# Altium footprint library DM3CS-SF.PcbLib: 1 footprints
Each footprint in its own frame and in the unit in brackets; x right, y up, seen from the top. Pads: shape width x height; smd on the part's side, far side on the other; paste and mask are expansions set on the pad; w line width, h text height; cw(c..) or ccw(c..) is an arc to the next point about the centre after c.
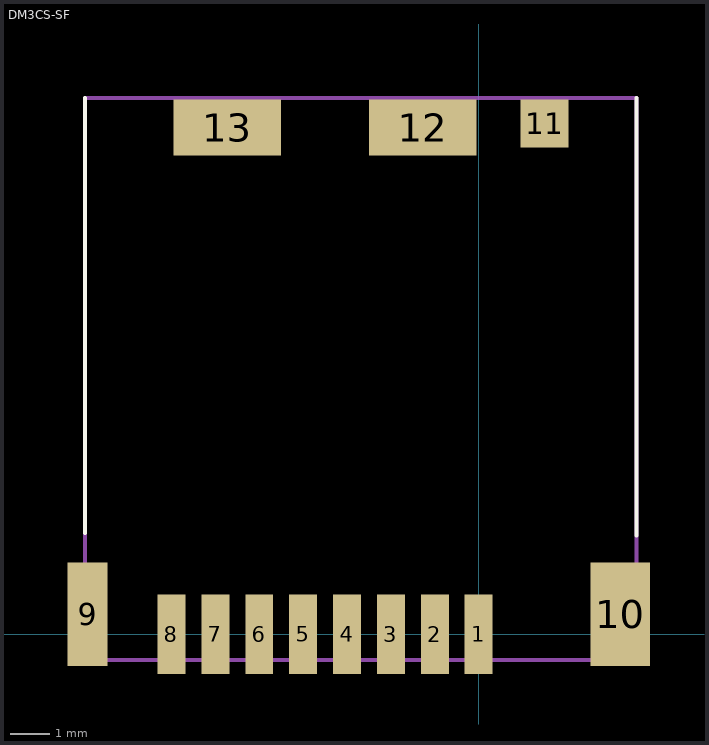
[diagram p0: the footprint, top view; thin cyan lines are the x and y axes]

## DM3CS-SF [mm]
pads (13):
  rect 0.7x2 smd: 1(0,0) 2(-1.1,0) 3(-2.2,0) 4(-3.3,0) 5(-4.4,0) 6(-5.5,0) 7(-6.6,0) 8(-7.7,0)
  rect 1x2.6 smd: 9(-9.8,0.5)
  rect 1.5x2.6 smd: 10(3.55,0.5)
  rect 1.2x1.2 smd: 11(1.65,12.8)
  rect 2.7x1.4 smd: 12(-1.4,12.7) 13(-6.3,12.7)
L26-Silk Screen Top (Multiple PADS layers...):
  lines w0.1: -9.871,2.538 -9.871,13.438 ; 3.959,2.476 3.959,13.438
L15 (Multiple PADS layers...):
  lines w0.1: -9.871,-0.642 3.959,-0.642 3.959,13.438 -9.871,13.438 -9.871,-0.642